# Altium footprint library Conectores_Trafo.PcbLib: 2 footprints
Each footprint in its own frame and in the unit in brackets; x right, y up, seen from the top. Pads: shape width x height; smd on the part's side, far side on the other; paste and mask are expansions set on the pad; w line width, h text height; cw(c..) or ccw(c..) is an arc to the next point about the centre after c.
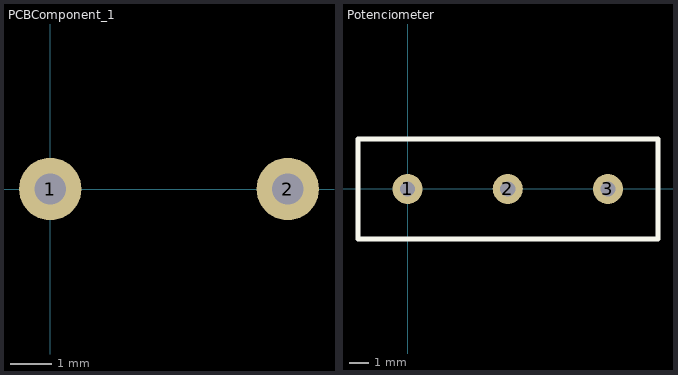
[diagram p0: the footprints below, top view; thin cyan lines are the x and y axes]

## PCBComponent_1 [mil]
pads (2):
  round 60 hole 30: 1(0,0) 2(228.35,0)

## Potenciometer [mil]
pads (3):
  round 60 hole 30: 1(0,0) 2(200,0) 3(400,0)
Top Overlay:
  lines w10: -99,-100 -99,0 -99,100 500,100 500,0 500,-100 -99,-100